# EAGLE library part PE29100 (library meng)
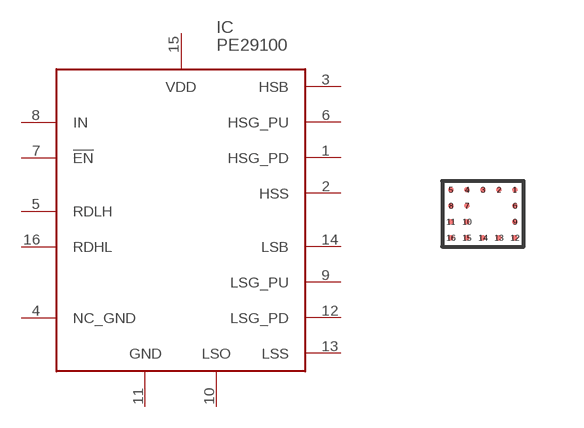
[diagram p3: symbol with the pads of PE29100; footprint PE29100]

Designator prefix IC

## PE29100  [PE29100]
1  HSG_PD
2  HSS
3  HSB
4  NC_GND
5  RDLH
6  HSG_PU
7  !EN
8  IN
9  LSG_PU
10  LSO
11  GND
12  LSG_PD
13  LSS
14  LSB
15  VDD
16  RDHL

## Footprint PE29100 (pad centres in mm)
smd 0.14 x 0.14: 1 0.8,0.6; 2 0.4,0.6; 3 0,0.6; 4 -0.4,0.6; 5 -0.8,0.6; 6 0.8,0.2; 7 -0.4,0.2; 8 -0.8,0.2; 9 0.8,-0.2; 10 -0.4,-0.2; 11 -0.8,-0.2; 12 0.8,-0.6; 13 0.4,-0.6; 14 0,-0.6; 15 -0.4,-0.6; 16 -0.8,-0.6